# EAGLE library part SCA100T-D02 (library LARS_409_SENSORS)
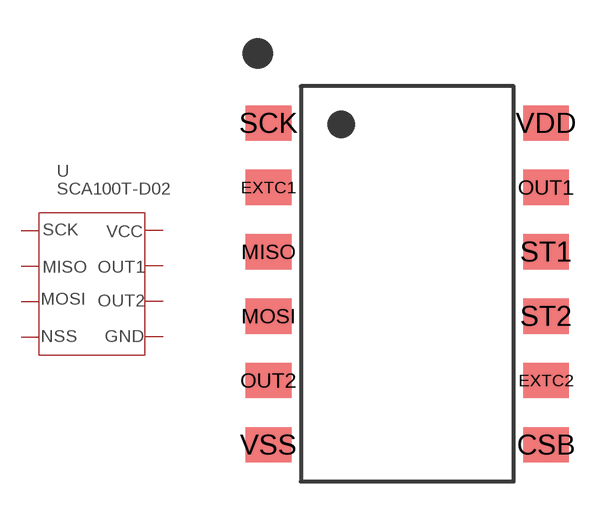
[diagram p6: symbol with the pads of SCA100T; footprint SCA100T]

Designator prefix U

## SCA100T-D02  [SCA100T]
CSB  NSS
MISO  MISO
MOSI  MOSI
OUT1  OUT1
OUT2  OUT2
SCK  SCK
VDD  VCC
VSS  GND

## Footprint SCA100T (pad centres in mm)
smd 1.81 x 1.39: CSB 5.48,-6.35; EXTC1 -5.48,3.81; EXTC2 5.48,-3.81; MISO -5.48,1.27; MOSI -5.48,-1.27; OUT1 5.48,3.81; OUT2 -5.48,-3.81; SCK -5.48,6.35; ST1 5.48,1.27; ST2 5.48,-1.27; VDD 5.48,6.35; VSS -5.48,-6.35